# Altium footprint library Connector_USB.PcbLib: 76 footprints (part 2 of 5)
Each footprint in its own frame and in the unit in brackets; x right, y up, seen from the top. Pads: shape width x height; smd on the part's side, far side on the other; paste and mask are expansions set on the pad; w line width, h text height; cw(c..) or ccw(c..) is an arc to the next point about the centre after c.
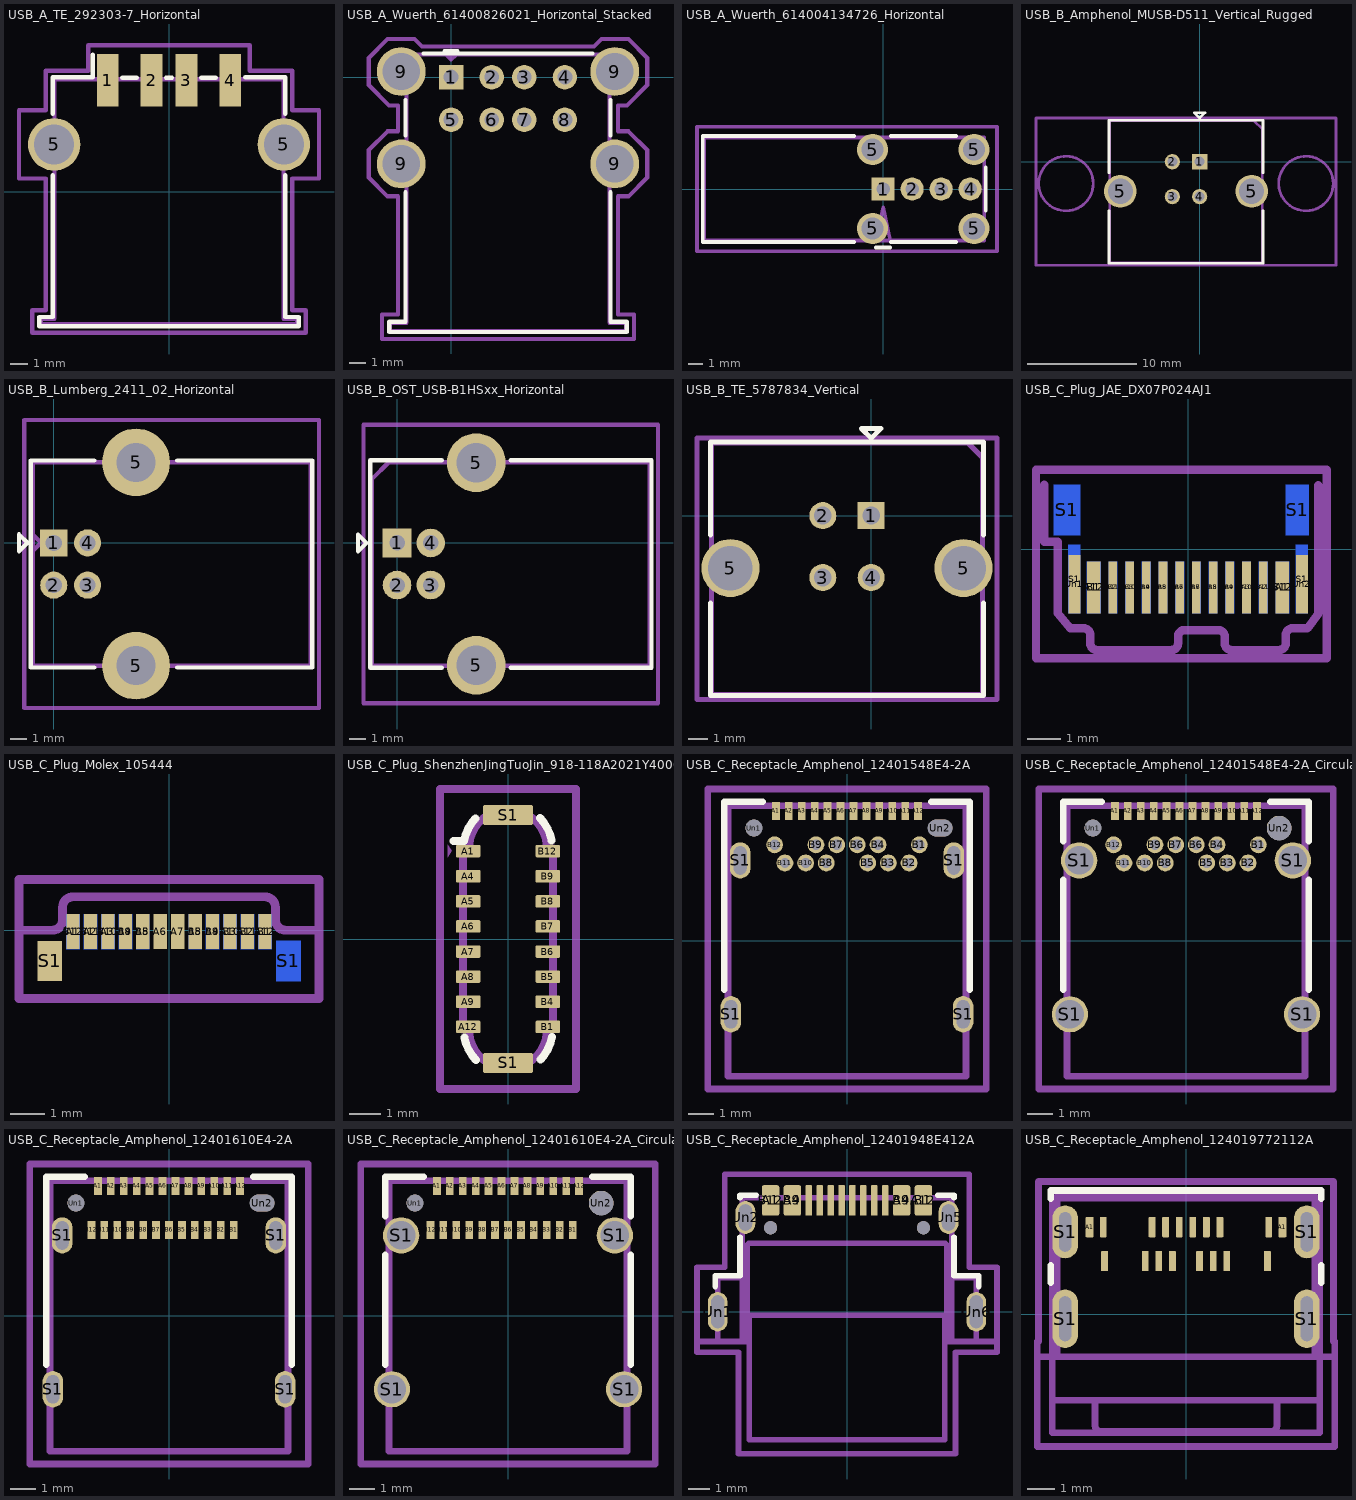
[diagram p1: the footprints below, top view; thin cyan lines are the x and y axes]

## USB_A_TE_292303-7_Horizontal [mm]
pads (6):
  rect 1.25x3 smd: 1(-3.5,6.38) 2(-1,6.38) 3(1,6.38) 4(3.5,6.38)
  round 3 hole 2.3: 5(-6.57,2.7) 5(6.57,2.7)
F.SilkS:
  lines w0.254: -6.66,0.94 -6.66,-7.17 -7.43,-7.17 -7.43,-7.69 7.43,-7.69 7.43,-7.17 6.66,-7.17 6.66,0.94 ; -6.66,4.46 -6.66,6.53 -4.35,6.53 -4.35,7.82 ; -2.67,6.52 -1.85,6.52 ; -0.17,6.52 0.17,6.52 ; 1.85,6.52 2.67,6.52 ; 4.35,6.53 6.66,6.53 6.66,4.46
Top Assembly:
  lines w0.254: -3.8,6.42 -3.8,7.58 -3.2,7.58 -3.2,6.42 ; -1.3,6.42 -1.3,7.58 -0.7,7.58 -0.7,6.42 ; 0.7,6.42 0.7,7.58 1.3,7.58 1.3,6.42 ; 3.2,6.42 3.2,7.58 3.8,7.58 3.8,6.42 ; -7.32,-7.58 7.32,-7.58 7.32,-7.28 6.55,-7.28 6.55,6.42 -6.55,6.42 -6.55,-7.28 -7.32,-7.28 -7.32,-7.58
  text "'.Designator'" at -4.047,0.87 h1
Top Courtyard:
  lines w0.254: -8.58,0.75 -7.05,0.75 -7.05,-6.78 -7.82,-6.78 -7.82,-8.08 7.82,-8.08 7.82,-6.78 7.05,-6.78 7.05,0.75 8.58,0.75 8.58,4.65 7.05,4.65 7.05,6.92 4.63,6.92 4.63,8.38 -4.63,8.38 -4.63,6.92 -7.05,6.92 -7.05,4.65 -8.58,4.65 -8.58,0.75
Top Designator:
  text ".Designator" at -7.618,-0.358 h1.52

## USB_A_Wuerth_61400826021_Horizontal_Stacked [mm]
pads (12):
  rect 1.5x1.5 hole 0.92: 1(0,0)
  round 1.5 hole 0.92: 2(2.5,0) 3(4.5,0) 4(7,0) 5(0,-2.62) 6(2.5,-2.62) 7(4.5,-2.62) 8(7,-2.62)
  round 3 hole 2.3: 9(-3.07,-5.33) 9(-3.07,0.35) 9(10.07,-5.33) 9(10.07,0.35)
F.SilkS:
  lines w0.254: -2.81,-7.08 -2.81,-15.05 -3.81,-15.05 -3.81,-15.67 10.81,-15.67 10.81,-15.05 9.81,-15.05 9.81,-7.08 ; -2.81,-3.58 -2.81,-1.4 ; -1.69,1.45 8.69,1.45 ; -0.4,1.6 0.4,1.6 ; 9.81,-3.58 9.81,-1.4
Top Assembly:
  lines w0.254: -0.3,1.38 0,1.1 0.3,1.38 ; -3.75,-15.61 10.75,-15.61 10.75,-15.11 9.75,-15.11 9.75,1.39 -2.75,1.39 -2.75,-15.11 -3.75,-15.11 -3.75,-15.61
  text "'.Designator'" at -0.547,-7.84 h1
Top Courtyard:
  lines w0.254: -5.07,-6.17 -3.91,-7.33 -3.26,-7.33 -3.26,-14.61 -4.25,-14.61 -4.25,-16.11 11.25,-16.11 11.25,-14.61 10.26,-14.61 10.26,-7.33 10.91,-7.33 12.07,-6.17 12.07,-4.49 10.91,-3.33 10.26,-3.33 10.26,-1.74 10.82,-1.74 12.07,-0.49 12.07,1.19 10.91,2.35 9.26,2.35 8.8,1.89 -1.8,1.89 -2.26,2.35 -3.91,2.35 -5.07,1.19 -5.07,-0.49 -3.82,-1.74 -3.26,-1.74 -3.26,-3.33 -3.91,-3.33 -5.07,-4.49 -5.07,-6.17
Top Designator:
  text ".Designator" at -4.118,-7.388 h1.52

## USB_A_Wuerth_614004134726_Horizontal [mm]
pads (8):
  rect 1.6x1.6 hole 0.92: 1(0,0)
  round 1.6 hole 0.92: 2(2,0) 3(4,0) 4(6,0)
  round 2.15 hole 1.5: 5(-0.73,-2.72) 5(-0.73,2.72) 5(6.27,-2.72) 5(6.27,2.72)
F.SilkS:
  lines w0.254: -1.98,-3.65 -12.43,-3.65 -12.43,3.65 -1.98,3.65 ; -0.5,-4.03 0.5,-4.03 ; 0.52,-3.65 5.02,-3.65 ; 0.52,3.65 5.02,3.65 ; 7.07,-1.5 7.07,1.5
Top Assembly:
  lines w0.254: -0.5,-3.55 0,-1.25 0.5,-3.55 ; -12.33,-3.55 6.97,-3.55 6.97,3.55 -12.33,3.55 -12.33,-3.55
  text "'.Designator'" at -6.902,-0.84 h1
Top Courtyard:
  lines w0.254: -12.83,-4.3 7.85,-4.3 7.85,4.3 -12.83,4.3 -12.83,-4.3
Top Designator:
  text ".Designator" at -10.108,-0.508 h1.52

## USB_B_Amphenol_MUSB-D511_Vertical_Rugged [mm]
pads (6):
  rect 1.4x1.4 hole 0.92: 1(0,0)
  round 1.4 hole 0.92: 2(-2.5,0) 3(-2.5,-3.2) 4(0,-3.2)
  round 3 hole 2.3: 5(-7.27,-2.71) 5(4.77,-2.71)
F.SilkS:
  lines w0.254: -8.3,-4.5 -8.3,-9.3 5.8,-9.3 5.8,-4.5 ; -8.3,-1 -8.3,3.8 5.8,3.8 5.8,-1 ; -0.5,4.5 0.5,4.5 0,4 -0.5,4.5
Top Assembly:
  circle w0.254: c9.75,-2 r2.5
  circle w0.254: c-12.25,-2 r2.5
  lines w0.254: -8.25,-9.25 5.75,-9.25 5.75,3 5,3.75 -8.25,3.75 -8.25,-9.25
  text "'.Designator'" at -5.247,-7.24 h1
Top Courtyard:
  lines w0.254: -15,-9.5 12.5,-9.5 12.5,4 -15,4 -15,-9.5
Top Designator:
  text ".Designator" at -8.868,-3.008 h1.52

## USB_B_Lumberg_2411_02_Horizontal [mm]
pads (6):
  rect 1.6x1.6 hole 0.95: 1(0,0)
  round 1.6 hole 0.95: 2(0,-2.5) 3(2,-2.5) 4(2,0)
  round 4 hole 2.3: 5(4.86,-7.25) 5(4.86,4.75)
F.SilkS:
  lines w0.254: 2.4,-7.36 -1.35,-7.36 -1.35,4.86 2.4,4.86 ; 7.3,-7.36 15.27,-7.36 15.27,4.86 7.3,4.86 ; -2.05,-0.5 -1.55,0 -2.05,0.5 -2.05,-0.5
Top Assembly:
  lines w0.254: -1.24,-0.49 -0.75,0 -1.24,0.49 ; -1.24,-7.25 15.16,-7.25 15.16,4.75 -1.24,4.75 -1.24,-7.25
  text "'.Designator'" at 3.453,-2.09 h1
Top Courtyard:
  lines w0.254: -1.74,-9.75 15.66,-9.75 15.66,7.25 -1.74,7.25 -1.74,-9.75
Top Designator:
  text ".Designator" at -0.813,-1.758 h1.52

## USB_B_OST_USB-B1HSxx_Horizontal [mm]
pads (6):
  rect 1.7x1.7 hole 0.92: 1(0,0)
  round 1.7 hole 0.92: 2(0,-2.5) 3(2,-2.5) 4(2,0)
  round 3.5 hole 2.33: 5(4.71,-7.27) 5(4.71,4.77)
F.SilkS:
  lines w0.254: 2.66,-7.41 -1.6,-7.41 -1.6,4.91 2.66,4.91 ; 6.76,-7.41 15.12,-7.41 15.12,4.91 6.76,4.91 ; -2.32,-0.5 -1.82,0 -2.32,0.5 -2.32,-0.5
Top Assembly:
  lines w0.254: -1.49,-7.3 15.01,-7.3 15.01,4.8 -0.49,4.8 -1.49,3.8 -1.49,-7.3
  text "'.Designator'" at 2.713,-2.09 h1
Top Courtyard:
  lines w0.254: -1.99,-9.52 15.51,-9.52 15.51,7.02 -1.99,7.02 -1.99,-9.52
Top Designator:
  text ".Designator" at -1.023,-1.758 h1.52

## USB_B_TE_5787834_Vertical [mm]
pads (6):
  rect 1.4x1.4 hole 0.92: 1(0,0)
  round 1.4 hole 0.92: 2(-2.5,0) 3(-2.5,-3.2) 4(0,-3.2)
  round 3 hole 2.3: 5(-7.27,-2.71) 5(4.77,-2.71)
F.SilkS:
  lines w0.254: -8.3,-4.5 -8.3,-9.3 5.8,-9.3 5.8,-4.5 ; -8.3,-1 -8.3,3.8 5.8,3.8 5.8,-1 ; -0.5,4.5 0.5,4.5 0,4 -0.5,4.5
Top Assembly:
  lines w0.254: -8.25,-9.25 5.75,-9.25 5.75,3 5,3.75 -8.25,3.75 -8.25,-9.25
  text "'.Designator'" at -5.247,-7.24 h1
Top Courtyard:
  lines w0.254: -9,-9.5 6.5,-9.5 6.5,4 -9,4 -9,-9.5
Top Designator:
  text ".Designator" at -8.868,-3.008 h1.52

## USB_C_Plug_JAE_DX07P024AJ1 [mm]
pads (30):
  rect 0.41x1.55 smd: A1(2.825,-1.148) A12(-2.825,-1.148)
  rect 0.26x1.55 smd: A2(2.25,-1.148) A3(1.75,-1.148) A4(1.25,-1.148) A5(0.75,-1.148) A6(0.25,-1.148) A7(-0.25,-1.148) A8(-0.75,-1.148) A9(-1.25,-1.148) A10(-1.75,-1.148) A11(-2.25,-1.148)
  rect 0.41x1.55 smd far side: B1(-2.825,-1.148) B12(2.825,-1.148)
  rect 0.26x1.55 smd far side: B2(-2.25,-1.148) B3(-1.75,-1.148) B4(-1.25,-1.148) B5(-0.75,-1.148) B6(-0.25,-1.148) B7(0.25,-1.148) B8(0.75,-1.148) B9(1.25,-1.148) B10(1.75,-1.148) B11(2.25,-1.148)
  rect 0.8x1.5 smd far side: S1(-3.625,1.172)
  rect 0.36x2.05 smd far side: S1(-3.405,-0.897) S1(3.405,-0.897)
  rect 0.7x1.5 smd far side: S1(3.27,1.172)
  rect 0.36x1.75 smd: Un1(-3.405,-1.048) Un2(3.405,-1.048)
Top Assembly:
  text "'.Designator'" at -3.023,-1.17 h0.75
Top Courtyard:
  lines w0.254: -4.553,-3.27 4.147,-3.27 4.147,2.38 -4.553,2.38 -4.553,-3.27
Bottom Courtyard:
  lines w0.254: -4.553,-3.27 4.147,-3.27 4.147,2.38 -4.553,2.38 -4.553,-3.27
Top Designator:
  text ".Designator" at -7.82,-1.116 h1.52
Board Shape:
  lines w0.254: -4.3,1.93 -4.3,0.228 -3.9,0.228 -3.9,-1.923 -3.53,-2.372 -3.125,-2.372 cw(c-3.125,-2.573) -2.925,-2.573 -2.925,-2.822 ccw(c-2.725,-2.822) -2.725,-3.023 -0.5,-3.023 ccw(c-0.5,-2.822) -0.3,-2.823 -0.3,-2.622 cw(c-0.1,-2.623) -0.1,-2.422 0.9,-2.422 cw(c0.9,-2.623) 1.1,-2.623 1.1,-2.822 ccw(c1.3,-2.822) 1.3,-3.023 2.725,-3.023 ccw(c2.725,-2.822) 2.925,-2.823 2.925,-2.572 cw(c3.125,-2.573) 3.125,-2.372 3.575,-2.372 3.9,-1.923 3.9,1.917
Dwgs.User:
  text "PCB Edge" at -1.748,-3.456 h0.5

## USB_C_Plug_Molex_105444 [mm]
pads (24):
  rect 0.38x1 smd: A1(-2.75,-0.04) A2(-2.25,-0.04) A3(-1.75,-0.04) A4(-1.25,-0.04) A5(-0.75,-0.04) A6(-0.25,-0.04) A7(0.25,-0.04) A8(0.75,-0.04) A9(1.25,-0.04) A10(1.75,-0.04) A11(2.25,-0.04) A12(2.75,-0.04)
  rect 0.38x1 smd far side: B1(2.75,-0.04) B2(2.25,-0.04) B3(1.75,-0.04) B4(1.25,-0.04) B5(0.75,-0.04) B8(-0.75,-0.04) B9(-1.25,-0.04) B10(-1.75,-0.04) B11(-2.25,-0.04) B12(-2.75,-0.04)
  rect 0.7x1.15 smd: S1(-3.42,-0.88)
  rect 0.7x1.15 smd far side: S1(3.42,-0.88)
Top Assembly:
  lines w0.254: -4.3,0 -3.35,0 ccw(c-3.35,0.3) -3.05,0.3 -3.05,0.66 cw(c-2.75,0.66) -2.75,0.96 2.75,0.96 cw(c2.75,0.66) 3.05,0.66 3.05,0.3 ccw(c3.35,0.3) 3.35,0 4.3,0
  text "'.Designator'" at -3.997,-2.83 h1
Top Courtyard:
  lines w0.254: -4.3,-1.96 4.3,-1.96 4.3,1.46 -4.3,1.46 -4.3,-1.96
Top Designator:
  text ".Designator" at -7.618,-1.346 h1.52
Dwgs.User:
  text "PCB Edge" at -1.728,0.547 h0.5

## USB_C_Plug_ShenzhenJingTuoJin_918-118A2021Y40002_Vertical [mm]
pads (18):
  rrect25% 0.79x0.4 smd: A1(-1.27,2.8) A4(-1.27,2) A5(-1.27,1.2) A6(-1.27,0.4) A7(-1.27,-0.4) A8(-1.27,-1.2) A9(-1.27,-2) A12(-1.27,-2.8) B1(1.27,-2.8) B4(1.27,-2) B5(1.27,-1.2) B6(1.27,-0.4) B7(1.27,0.4) B8(1.27,1.2) B9(1.27,2) B12(1.27,2.8)
  rrect25% 1.6x0.65 smd: S1(0,-3.95) S1(0,3.95)
F.SilkS:
  lines w0.254: -1.74,3.125 -1.4,3.125 cw(c0,2.875) -1.043,3.842 ; -1.39,-3.139 ccw(c0,-2.875) -1.025,-3.85 ; 1.025,3.85 cw(c0,2.875) 1.39,3.139 ; 1.043,-3.842 ccw(c0,-2.875) 1.4,-3.125
Top Assembly:
  region: -1.79,2.81 -1.92,2.61 -1.92,2.99 -1.92,3.01
  lines w0.254: -1.44,-2.88 -1.245,-2.88 ccw(c0,-2.88) 1.245,-2.88 1.44,-2.88 1.44,2.88 1.245,2.88 ccw(c0,2.88) -1.245,2.88 -1.44,2.88 -1.44,-2.88
  text "'.Designator'" at 0.84,-4.047 h1
Top Courtyard:
  lines w0.254: -2.17,-4.78 2.17,-4.78 2.17,4.78 -2.17,4.78 -2.17,-4.78
Top Designator:
  text ".Designator" at -7.618,-0.508 h1.52

## USB_C_Receptacle_Amphenol_12401548E4-2A [mm]
pads (30):
  rect 0.3x0.7 smd: A1(-2.75,5.02) A2(-2.25,5.02) A3(-1.75,5.02) A4(-1.25,5.02) A5(-0.75,5.02) A6(-0.25,5.02) A7(0.25,5.02) A8(0.75,5.02) A9(1.25,5.02) A10(1.75,5.02) A11(2.25,5.02) A12(2.75,5.02)
  round 0.65 hole 0.4: B1(2.8,3.71) B2(2.4,3.01) B3(1.6,3.01) B4(1.2,3.71) B5(0.8,3.01) B6(0.4,3.71) B7(-0.4,3.71) B8(-0.8,3.01) B9(-1.2,3.71) B10(-1.6,3.01) B11(-2.4,3.01) B12(-2.8,3.71)
  rrect100% 0.8x1.4 hole 1.1 slot 0.5 at 0 deg: S1(-4.49,-2.84) S1(-4.13,3.11) S1(4.13,3.11) S1(4.49,-2.84)
  round 0.65 hole 0.65: Un1(-3.6,4.36)
  rrect100% 0.95x0.65 hole 0.65 slot 0.95 at 0 deg: Un2(3.6,4.36)
F.SilkS:
  lines w0.254: -4.75,-1.89 -4.75,5.37 -3.25,5.37 ; 3.25,5.37 4.75,5.37 4.75,-1.89
Top Assembly:
  lines w0.254: -4.6,-5.23 4.6,-5.23 4.6,5.22 -4.6,5.22 -4.6,-5.23
  text "'.Designator'" at -3.997,-0.79 h1
Top Courtyard:
  lines w0.254: -5.39,-5.73 5.39,-5.73 5.39,5.87 -5.39,5.87 -5.39,-5.73
Top Designator:
  text ".Designator" at -7.618,-0.438 h1.52

## USB_C_Receptacle_Amphenol_12401548E4-2A_CircularHoles [mm]
pads (30):
  rect 0.3x0.7 smd: A1(-2.75,5.02) A2(-2.25,5.02) A3(-1.75,5.02) A4(-1.25,5.02) A5(-0.75,5.02) A6(-0.25,5.02) A7(0.25,5.02) A8(0.75,5.02) A9(1.25,5.02) A10(1.75,5.02) A11(2.25,5.02) A12(2.75,5.02)
  round 0.65 hole 0.4: B1(2.8,3.71) B2(2.4,3.01) B3(1.6,3.01) B4(1.2,3.71) B5(0.8,3.01) B6(0.4,3.71) B7(-0.4,3.71) B8(-0.8,3.01) B9(-1.2,3.71) B10(-1.6,3.01) B11(-2.4,3.01) B12(-2.8,3.71)
  round 1.4 hole 1.1: S1(-4.49,-2.84) S1(-4.13,3.11) S1(4.13,3.11) S1(4.49,-2.84)
  round 0.65 hole 0.65: Un1(-3.6,4.36)
  round 0.95 hole 0.95: Un2(3.6,4.36)
F.SilkS:
  lines w0.254: -4.75,-1.89 -4.75,2.35 ; -4.75,3.85 -4.75,5.37 -3.25,5.37 ; 3.25,5.37 4.75,5.37 4.75,3.85 ; 4.75,-1.89 4.75,2.35
Top Assembly:
  lines w0.254: -4.6,-5.23 4.6,-5.23 4.6,5.22 -4.6,5.22 -4.6,-5.23
  text "'.Designator'" at -3.997,-0.79 h1
Top Courtyard:
  lines w0.254: -5.69,-5.73 5.69,-5.73 5.69,5.87 -5.69,5.87 -5.69,-5.73
Top Designator:
  text ".Designator" at -7.618,-0.438 h1.52

## USB_C_Receptacle_Amphenol_12401610E4-2A [mm]
pads (30):
  rect 0.3x0.7 smd: A1(-2.75,5.02) A2(-2.25,5.02) A3(-1.75,5.02) A4(-1.25,5.02) A5(-0.75,5.02) A6(-0.25,5.02) A7(0.25,5.02) A8(0.75,5.02) A9(1.25,5.02) A10(1.75,5.02) A11(2.25,5.02) A12(2.75,5.02) B1(2.5,3.32) B2(2,3.32) B3(1.5,3.32) B4(1,3.32) B5(0.5,3.32) B6(0,3.32) B7(-0.5,3.32) B8(-1,3.32) B9(-1.5,3.32) B10(-2,3.32) B11(-2.5,3.32) B12(-3,3.32)
  rrect100% 0.8x1.4 hole 1.1 slot 0.5 at 0 deg: S1(-4.49,-2.84) S1(-4.13,3.11) S1(4.13,3.11) S1(4.49,-2.84)
  round 0.65 hole 0.65: Un1(-3.6,4.36)
  rrect100% 0.95x0.65 hole 0.65 slot 0.95 at 0 deg: Un2(3.6,4.36)
F.SilkS:
  lines w0.254: -4.75,-1.89 -4.75,5.37 -3.25,5.37 ; 3.25,5.37 4.75,5.37 4.75,-1.89
Top Assembly:
  lines w0.254: -4.6,-5.23 4.6,-5.23 4.6,5.22 -4.6,5.22 -4.6,-5.23
  text "'.Designator'" at -3.997,-0.79 h1
Top Courtyard:
  lines w0.254: -5.39,-5.73 5.39,-5.73 5.39,5.87 -5.39,5.87 -5.39,-5.73
Top Designator:
  text ".Designator" at -7.618,-0.438 h1.52

## USB_C_Receptacle_Amphenol_12401610E4-2A_CircularHoles [mm]
pads (30):
  rect 0.3x0.7 smd: A1(-2.75,5.02) A2(-2.25,5.02) A3(-1.75,5.02) A4(-1.25,5.02) A5(-0.75,5.02) A6(-0.25,5.02) A7(0.25,5.02) A8(0.75,5.02) A9(1.25,5.02) A10(1.75,5.02) A11(2.25,5.02) A12(2.75,5.02) B1(2.5,3.32) B2(2,3.32) B3(1.5,3.32) B4(1,3.32) B5(0.5,3.32) B6(0,3.32) B7(-0.5,3.32) B8(-1,3.32) B9(-1.5,3.32) B10(-2,3.32) B11(-2.5,3.32) B12(-3,3.32)
  round 1.4 hole 1.1: S1(-4.49,-2.84) S1(-4.13,3.11) S1(4.13,3.11) S1(4.49,-2.84)
  round 0.65 hole 0.65: Un1(-3.6,4.36)
  round 0.95 hole 0.95: Un2(3.6,4.36)
F.SilkS:
  lines w0.254: -4.75,-1.89 -4.75,2.35 ; -4.75,3.85 -4.75,5.37 -3.25,5.37 ; 3.25,5.37 4.75,5.37 4.75,3.85 ; 4.75,-1.89 4.75,2.35
Top Assembly:
  lines w0.254: -4.6,-5.23 4.6,-5.23 4.6,5.22 -4.6,5.22 -4.6,-5.23
  text "'.Designator'" at -3.997,-0.79 h1
Top Courtyard:
  lines w0.254: -5.69,-5.73 5.69,-5.73 5.69,5.87 -5.69,5.87 -5.69,-5.73
Top Designator:
  text ".Designator" at -7.618,-0.438 h1.52

## USB_C_Receptacle_Amphenol_12401948E412A [mm]
pads (22):
  rrect25% 0.8x1.4 smd: A1(-3.5,5.1) A4(-2.5,5.1) A9(2.5,5.1) A12(3.5,5.1) B1(3.5,5.1) B4(2.5,5.1) B9(-2.5,5.1) B12(-3.5,5.1)
  rrect25% 0.3x1.4 smd: A5(-1.25,5.1) A6(-0.25,5.1) A7(0.25,5.1) A8(1.25,5.1) B5(1.75,5.1) B6(0.75,5.1) B7(-0.75,5.1) B8(-1.75,5.1)
  rrect100% 0.9x1.8 hole 1.5 slot 0.6 at 0 deg: Un1(-5.92,0) Un6(5.92,0)
  rrect100% 0.9x1.5 hole 1.2 slot 0.6 at 0 deg: Un2(-4.65,4.32) Un5(4.65,4.32)
  round 0.6 hole 0.6: Un3(-3.5,3.85) Un4(3.5,3.85)
F.SilkS:
  lines w0.254: -6.03,1.16 -6.03,1.66 -4.9,1.66 -4.9,3.41 ; -4.9,5.23 -4.9,5.33 ; -4.9,5.334 -4.16,5.334 ; 4.16,5.334 4.9,5.334 ; 4.9,3.41 4.9,1.66 6.03,1.66 6.03,1.16 ; 4.9,5.23 4.9,5.33
Top Assembly:
  lines w0.254: -4.79,-0.15 4.79,-0.15 ; -4.79,1.55 -5.92,1.55 -5.92,-1.35 -4.79,-1.35 -4.79,5.22 4.79,5.22 4.79,-1.35 5.92,-1.35 5.92,1.55 4.79,1.55 ; -4.47,-0.15 -4.47,-5.85 4.47,-5.85 4.47,-0.15
  text "'.Designator'" at -3.207,-0.642 h0.8
  text "PCB EDGE" at 3.16,-2.64 h0.6
Top Courtyard:
  lines w0.254: -6.87,-1.85 -4.97,-1.85 -4.97,-6.5 4.97,-6.5 4.97,-1.85 6.87,-1.85 6.87,2.05 5.6,2.05 5.6,6.3 -5.6,6.3 -5.6,2.05 -6.87,2.05 -6.87,-1.85
Top Designator:
  text ".Designator" at -7.451,-0.608 h1.52
Board Shape:
  lines w0.254: -6.7,-1.36 -4.57,-1.36 -4.57,3 cw(c-4.42,3) -4.42,3.15 4.42,3.15 cw(c4.42,3) 4.57,3 4.57,-1.36 6.7,-1.36

## USB_C_Receptacle_Amphenol_124019772112A [mm]
pads (22):
  rrect25% 0.3x0.75 smd: A1(-3.55,3.2) A1(3.55,3.2)
  rrect25% 0.25x0.75 smd: A1(-3.05,3.2) A4(-1.25,3.2) A5(-0.75,3.2) A6(-0.25,3.2) A7(0.25,3.2) A8(0.75,3.2) A9(1.25,3.2) A12(3.05,3.2) B1(3,1.95) B4(1.5,1.95) B5(1,1.95) B6(0.5,1.95) B7(-0.5,1.95) B8(-1,1.95) B9(-1.5,1.95) B12(-3,1.95)
  rrect100% 0.95x2.15 hole 1.65 slot 0.45 at 0 deg: S1(-4.45,-0.175) S1(4.45,-0.175)
  rrect100% 0.95x1.95 hole 1.45 slot 0.45 at 0 deg: S1(-4.45,3.025) S1(4.45,3.025)
F.SilkS:
  lines w0.254: -4.98,1.16 -4.98,1.79 ; -4.98,4.26 -4.98,4.555 4.98,4.555 4.98,4.26 ; 4.98,1.16 4.98,1.79
Top Assembly:
  lines w0.254: -3.345,-3.175 -3.345,-4.125 ccw(c-3.145,-4.125) -3.145,-4.325 3.145,-4.325 ccw(c3.145,-4.125) 3.345,-4.125 3.345,-3.175 ; -4.75,-1.575 4.75,-1.575 ; -4.75,-1.575 -4.75,4.325 4.75,4.325 4.75,-1.575 ; -4.75,-1.575 -4.925,-1.575 -4.925,-3.175 4.925,-3.175 4.925,-1.575 4.75,-1.575
  text "'.Designator'" at -4.047,-0.34 h1
Top Courtyard:
  lines w0.254: -5.48,-4.88 5.48,-4.88 5.48,-1.02 5.43,-1.02 5.43,4.88 -5.43,4.88 -5.43,-1.02 -5.48,-1.02 -5.48,-4.88
Top Designator:
  text ".Designator" at -7.618,-1.154 h1.52
Dwgs.User:
  lines w0.254: -5.43,-1.575 5.43,-1.575
  text "PCB Edge" at -3.447,-2.317 h1
Cmts.User:
  lines w0.254: -4.925,-4.375 4.925,-4.375 4.925,4.275 -4.925,4.275 -4.925,-4.375
  text "Keep out zone" at -5.097,-5.817 h1